# Altium footprint library SOT23-3N.PcbLib: 1 footprints
Each footprint in its own frame and in the unit in brackets; x right, y up, seen from the top. Pads: shape width x height; smd on the part's side, far side on the other; paste and mask are expansions set on the pad; w line width, h text height; cw(c..) or ccw(c..) is an arc to the next point about the centre after c.
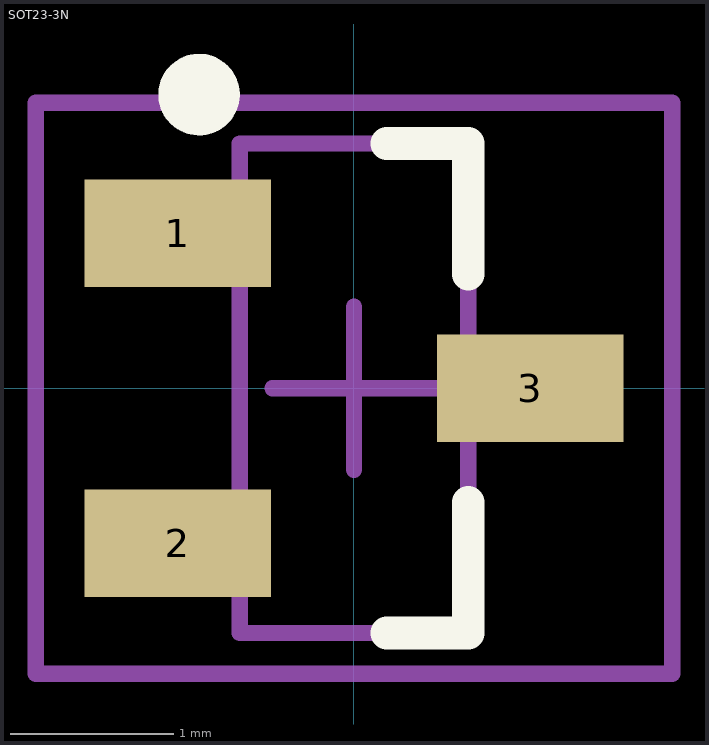
[diagram p0: the footprint, top view; thin cyan lines are the x and y axes]

## SOT23-3N [mil] "SOT23, 3-Leads, Body 2.9x1.3mm, Pitch 0.95mm, Lead Span 2.5mm, IPC Medium Density"
height 43.31
pads (3):
  rect 45x26 smd: 1(-42.5,37.4) 2(-42.5,-37.4) 3(42.5,0)
Top Overlay:
  circle w9.84: c-37.4,70.87 r4.92
  lines w7.87: 7.87,-59.06 27.56,-59.06 27.56,-27.56 ; 7.87,59.06 27.56,59.06 27.56,27.56
Mechanical 13:
  lines w3.94: -27.56,-59.06 27.56,-59.06 27.56,59.06 -27.56,59.06 -27.56,-59.06
Mechanical 15:
  lines w3.94: -19.68,0 19.69,0 ; 0,-19.68 0,19.69 ; -76.77,-68.9 76.77,-68.9 76.77,68.9 -76.77,68.9 -76.77,-68.9
3D body: height 43.31, standoff 0, extent -27.56,-59.06 27.56,59.06